# EAGLE library part IR2104 (library ttd)
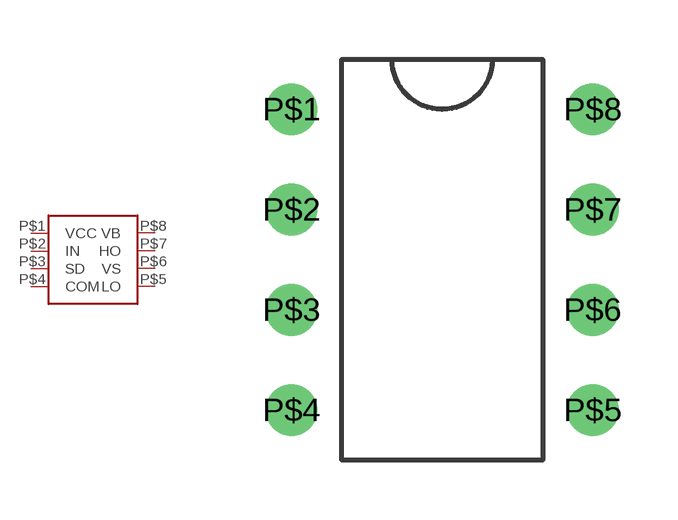
[diagram p0: symbol with the pads of IR2104_DIL; footprint IR2104_DIL]

Designator prefix -

## IR2104  [IR2104_DIL]
P$1  VCC
P$2  IN
P$3  SD
P$4  COM
P$5  LO
P$6  VS
P$7  HO
P$8  VB

## Footprint IR2104_DIL (pad centres in mm)
drill 0.8: P$1 -3.81,3.81; P$2 -3.81,1.27; P$3 -3.81,-1.27; P$4 -3.81,-3.81; P$5 3.81,-3.81; P$6 3.81,-1.27; P$7 3.81,1.27; P$8 3.81,3.81